# EAGLE library part M03X2 (library header)
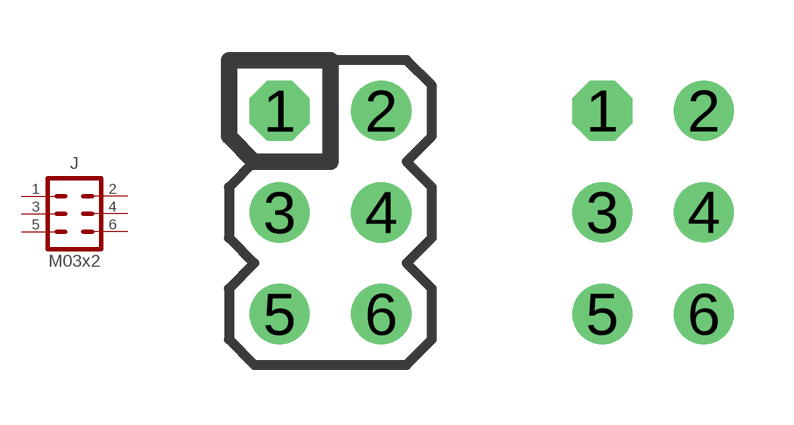
[diagram p10: symbol with the pads of 2X03; footprints 2X03, 2X03-NOSILK]

Designator prefix J

## M03X2STD  [2X03]
1  1
2  2
3  3
4  4
5  5
6  6

## M03X2NOSILK  [2X03-NOSILK]
Pads as for 2X03

## Footprint 2X03 (pad centres in mm)
drill 1 octagon: 1 -1.27,2.54
drill 1: 2 1.27,2.54; 3 -1.27,0; 4 1.27,0; 5 -1.27,-2.54; 6 1.27,-2.54

## Footprint 2X03-NOSILK (pad centres in mm)
drill 1 octagon: 1 -1.27,2.54
drill 1: 2 1.27,2.54; 3 -1.27,0; 4 1.27,0; 5 -1.27,-2.54; 6 1.27,-2.54